# EAGLE library part JST-08 (library con-jst)
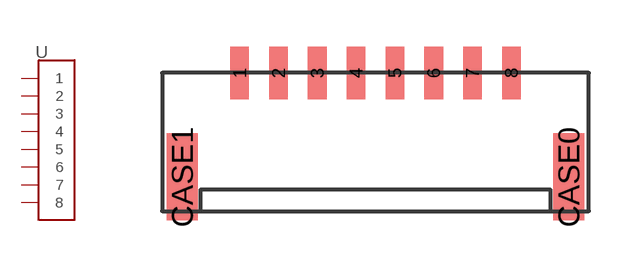
[diagram p1: symbol with the pads of GH-08-V; footprint GH-08-V]

Designator prefix -

## JST-08  [GH-08-V]
1  1
2  2
3  3
4  4
5  5
6  6
7  7
8  8

## Footprint GH-08-V (pad centres in mm)
smd 0.6 x 1.7: 1 -4.375,2.5; 2 -3.125,2.5; 3 -1.875,2.5; 4 -0.625,2.5; 5 0.625,2.5; 6 1.875,2.5; 7 3.125,2.5; 8 4.375,2.5
smd 1 x 2.8: CASE0 6.225,-0.85; CASE1 -6.225,-0.85